# Altium schematic symbol library M20-9720345.SchLib: 1 symbol
Pins are listed as number, name and electrical type; pins without a type are passive.

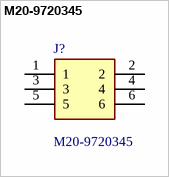
[diagram p0: symbol M20-9720345]

## M20-9720345
designator J?
2.54mm (0.1") Pitch DIL Vertical Throughboard Pin Header, 7mm mating pin height, gold (hi-temp mould), 3+3 contacts; Manufacturer_Name: Harwin; Geometry.Height: 8.64mm; Manufacturer_Part_Number: M20-9720345; Mouser Part Number: 855-M20-9720345; Mouser Price/Stock: https://www.mouser.co.uk/ProductDetail/Harwin/M20-9720345?qs=vF78I%252BjhbY8b2N4EUBH%2Fyg%3D%3D; Arrow Part Number: *; Arrow Price/Stock: *; Datasheet Link: https://cdn.harwin.com/pdfs/M20-972.pdf
footprint HDRV6W64P254_2X3_762X508X864P
pins: 1, 2, 3, 4, 5, 6